# Altium footprint library SON.PcbLib: 2 footprints
Each footprint in its own frame and in the unit in brackets; x right, y up, seen from the top. Pads: shape width x height; smd on the part's side, far side on the other; paste and mask are expansions set on the pad; w line width, h text height; cw(c..) or ccw(c..) is an arc to the next point about the centre after c.
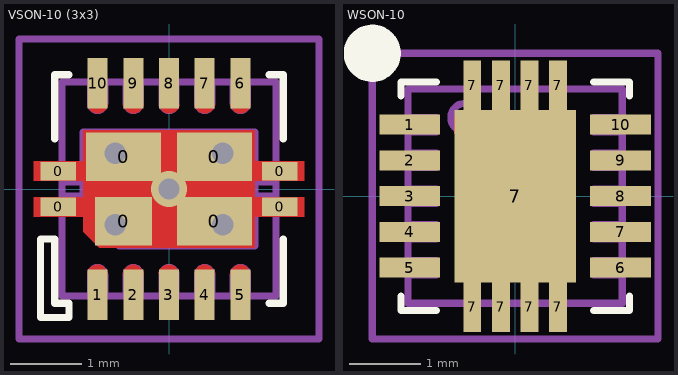
[diagram p0: the footprints below, top view; thin cyan lines are the x and y axes]

## VSON-10 (3x3) [mm]
height 1
pads (18):
  rect 0.5x0.26 smd paste+0: 0(-1.55,-0.25) 0(-1.55,0.25) 0(1.55,-0.25) 0(1.55,0.25)
  rect 0.8x0.68 smd paste+0: 0(-0.635,-0.45)
  rect 1.05x0.68 smd paste+0: 0(-0.635,0.45) 0(0.635,-0.45) 0(0.635,0.45)
  rect 0.28x0.71 smd: 1(-1,-1.48) 2(-0.5,-1.48) 3(0,-1.48) 4(0.5,-1.48) 5(1,-1.48) 6(1,1.48) 7(0.5,1.48) 8(0,1.48) 9(-0.5,1.48) 10(-1,1.48)
via -0.75,-0.5 diameter 0.5 hole 0.3
via 0.75,-0.5 diameter 0.5 hole 0.3
via -0.75,0.5 diameter 0.5 hole 0.3
via 0.75,0.5 diameter 0.5 hole 0.3
via 0,0 diameter 0.5 hole 0.3
Top Layer:
  region: 1.9,-0.11 1.2,-0.11 1.2,-0.39 1.9,-0.39
  rectangle: -1.9,-0.39 -1.2,-0.11
  region: 1.9,0.39 1.2,0.39 1.2,0.11 1.9,0.11
  rectangle: -1.9,0.11 -1.2,0.39
  region: -0.11,-0.11 -1.16,-0.11 -1.16,-0.54 -0.91,-0.79 -0.11,-0.79
  region: -1.2,-0.6 -1.2,0.825 1.2,0.825 1.2,-0.825 -0.975,-0.825
  region: 0.86,1.2 1.14,1.2 1.141,1.172 1.12,1.12 1.08,1.08 1.028,1.059 1,1.06 0.972,1.061 0.921,1.082 0.882,1.122 0.861,1.172
  region: 0.36,1.2 0.64,1.2 0.641,1.172 0.62,1.12 0.58,1.08 0.528,1.059 0.5,1.06 0.472,1.061 0.421,1.082 0.382,1.122 0.361,1.172
  region: -0.14,1.2 0.14,1.2 0.141,1.172 0.12,1.12 0.08,1.08 0.028,1.059 0,1.06 -0.028,1.061 -0.079,1.082 -0.118,1.122 -0.139,1.172
  region: -0.64,1.2 -0.36,1.2 -0.359,1.172 -0.38,1.12 -0.42,1.08 -0.472,1.059 -0.5,1.06 -0.528,1.061 -0.579,1.082 -0.618,1.122 -0.639,1.172
  region: -1.14,1.2 -0.86,1.2 -0.859,1.172 -0.88,1.12 -0.92,1.08 -0.972,1.059 -1,1.06 -1.028,1.061 -1.079,1.082 -1.118,1.122 -1.139,1.172
  region: 1.14,-1.2 0.86,-1.2 0.859,-1.172 0.88,-1.12 0.92,-1.08 0.972,-1.059 1,-1.06 1.028,-1.061 1.079,-1.082 1.118,-1.122 1.139,-1.172
  region: 0.64,-1.2 0.36,-1.2 0.359,-1.172 0.38,-1.12 0.42,-1.08 0.472,-1.059 0.5,-1.06 0.528,-1.061 0.579,-1.082 0.618,-1.122 0.639,-1.172
  region: 0.14,-1.2 -0.14,-1.2 -0.141,-1.172 -0.12,-1.12 -0.08,-1.08 -0.028,-1.059 0,-1.06 0.028,-1.061 0.079,-1.082 0.118,-1.122 0.139,-1.172
  region: -0.36,-1.2 -0.64,-1.2 -0.641,-1.172 -0.62,-1.12 -0.58,-1.08 -0.528,-1.059 -0.5,-1.06 -0.472,-1.061 -0.421,-1.082 -0.382,-1.122 -0.361,-1.172
  region: -0.86,-1.2 -1.14,-1.2 -1.141,-1.172 -1.12,-1.12 -1.08,-1.08 -1.028,-1.059 -1,-1.06 -0.972,-1.061 -0.921,-1.082 -0.882,-1.122 -0.861,-1.172
Top Overlay:
  lines w0.1: -1.6,0.7 -1.6,1.6 -1.4,1.6 ; 1.4,-1.6 1.6,-1.6 1.6,-0.7 ; 1.4,1.6 1.6,1.6 1.6,0.7 ; -1.8,-1.8 -1.4,-1.8 -1.4,-1.6 -1.6,-1.6 -1.6,-0.7 -1.8,-0.7 -1.8,-1.8
Top Package:
  lines w0.1: -1.5,-0.3 -1.2,-0.3 -0.7,-0.8 1.2,-0.8 1.2,-0.3 1.5,-0.3 ; -1.5,-0.1 -1.2,-0.1 -1.2,0.1 -1.5,0.1 ; -1.5,0.3 -1.2,0.3 -1.2,0.8 1.2,0.8 1.2,0.3 1.5,0.3 ; -1.1,-1.5 -1.1,-1.2 cw(c-1,-1.2) -0.9,-1.2 -0.9,-1.5 ; -1.1,1.5 -1.1,1.2 ccw(c-1,1.2) -0.9,1.2 -0.9,1.5 ; -0.6,-1.5 -0.6,-1.2 cw(c-0.5,-1.2) -0.4,-1.2 -0.4,-1.5 ; -0.6,1.5 -0.6,1.2 ccw(c-0.5,1.2) -0.4,1.2 -0.4,1.5 ; -0.1,-1.5 -0.1,-1.2 cw(c0,-1.2) 0.1,-1.2 0.1,-1.5 ; -0.1,1.5 -0.1,1.2 ccw(c0,1.2) 0.1,1.2 0.1,1.5 ; 0.4,-1.5 0.4,-1.2 cw(c0.5,-1.2) 0.6,-1.2 0.6,-1.5 ; 0.4,1.5 0.4,1.2 ccw(c0.5,1.2) 0.6,1.2 0.6,1.5 ; 0.9,-1.5 0.9,-1.2 cw(c1,-1.2) 1.1,-1.2 1.1,-1.5 ; 0.9,1.5 0.9,1.2 ccw(c1,1.2) 1.1,1.2 1.1,1.5 ; 1.5,-0.1 1.2,-0.1 1.2,0.1 1.5,0.1 ; -1.5,-1.5 1.5,-1.5 1.5,1.5 -1.5,1.5 -1.5,-1.5
Top Border:
  lines w0.1: -0.4,0 0.4,0 ; 0,-0.4 0,0.4 ; -2.1,-2.1 -2.1,2.1 2.1,2.1 2.1,-2.1 -2.1,-2.1
3D body "VSON-10 (3x3).step": height 0.9, standoff 0, extent -1.501,-1.501 1.501,1.501

## WSON-10 [mm] "WSON-10 3x3x0.9mm"
height 0.9
pads (19):
  rect 0.85x0.28 smd: 1(-1.475,1) 2(-1.475,0.5) 3(-1.475,0) 4(-1.475,-0.5) 5(-1.475,-1) 6(1.475,-1) 7(1.475,-0.5) 8(1.475,0) 9(1.475,0.5) 10(1.475,1)
  rect 0.25x0.7 smd: 7(-0.6,-1.55) 7(-0.6,1.55) 7(-0.2,-1.55) 7(-0.2,1.55) 7(0.2,-1.55) 7(0.2,1.55) 7(0.6,-1.55) 7(0.6,1.55)
  rect 1.7x2.415 smd: 7(0,0)
Top Layer:
  pour cut-out: -0.85,1.125 -0.825,1.125 -0.779,1.106 -0.744,1.071 -0.725,1.025 -0.725,1 -0.725,0.975 -0.744,0.929 -0.779,0.894 -0.825,0.875 -0.85,0.875
Top Overlay:
  circle w0.4: c-2,2 r0.2
  lines w0.1: -1.6,-1.4 -1.6,-1.6 -1.1,-1.6 ; -1.6,1.4 -1.6,1.6 -1.1,1.6 ; 1.1,-1.6 1.6,-1.6 1.6,-1.4 ; 1.1,1.6 1.6,1.6 1.6,1.4
Top Package:
  circle w0.1: c-0.7,1.1 r0.2
  lines w0.1: -1.5,-1.1 -1.1,-1.1 -1.1,-0.9 -1.5,-0.9 ; -1.5,-0.6 -1.1,-0.6 -1.1,-0.4 -1.5,-0.4 ; -1.5,-0.1 -1.1,-0.1 -1.1,0.1 -1.5,0.1 ; -1.5,0.4 -1.1,0.4 -1.1,0.6 -1.5,0.6 ; -1.5,0.9 -1.1,0.9 -1.1,1.1 -1.5,1.1 ; 1.5,-1.1 1.1,-1.1 1.1,-0.9 1.5,-0.9 ; 1.5,-0.6 1.1,-0.6 1.1,-0.4 1.5,-0.4 ; 1.5,-0.1 1.1,-0.1 1.1,0.1 1.5,0.1 ; 1.5,0.4 1.1,0.4 1.1,0.6 1.5,0.6 ; 1.5,0.9 1.1,0.9 1.1,1.1 1.5,1.1 ; -1.5,-1.5 -1.5,1.5 1.5,1.5 1.5,-1.5 -1.5,-1.5
Top Border:
  lines w0.1: -0.5,0 0,0 ; 0,-0.5 0,0 ; 0,0.5 0,0 ; 0.5,0 0,0 ; -2,-2 -2,2 2,2 2,-2 -2,-2
3D body "WDFN-10.STEP": height 0.8, standoff 0, extent -1.56,-1.55 1.56,1.55